# EAGLE library part LM3404 (library LM3404)
1A CC LED Driver Vcs = 200mV LM3404: Vin = 6-42v (max 45v) LM3404HV: Vin = 6-75v (max 76v)
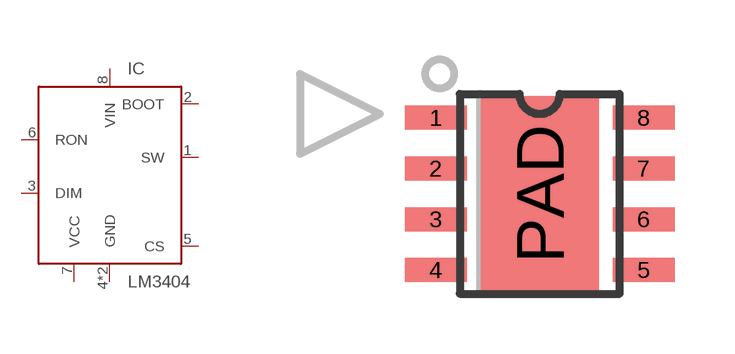
[diagram p0: symbol with the pads of P-SOIC8; footprint P-SOIC8]

Designator prefix IC

## LM3404DDA (MARK: LM3404 MR; MF: Texas Instruments; MPN: LM3404MR/NOPB), LM3404HVDDA (MARK: LM3404 HVMR; MF: Texas Instruments; MPN: LM3404HVMR/NOPB)  [P-SOIC8]
1  SW
2  BOOT
3  DIM
4  GND
5  CS
6  RON
7  VCC
8  VIN
PAD  GND

## Footprint P-SOIC8 (pad centres in mm)
smd 1.55 x 0.6: 1 -2.6,1.905; 2 -2.6,0.635; 3 -2.6,-0.635; 4 -2.6,-1.905; 5 2.6,-1.905; 6 2.6,-0.635; 7 2.6,0.635; 8 2.6,1.905
smd 2.95 x 4.9: PAD 0,0